# Altium footprint library Tantalum-1206.PcbLib: 1 footprints
Each footprint in its own frame and in the unit in brackets; x right, y up, seen from the top. Pads: shape width x height; smd on the part's side, far side on the other; paste and mask are expansions set on the pad; w line width, h text height; cw(c..) or ccw(c..) is an arc to the next point about the centre after c.
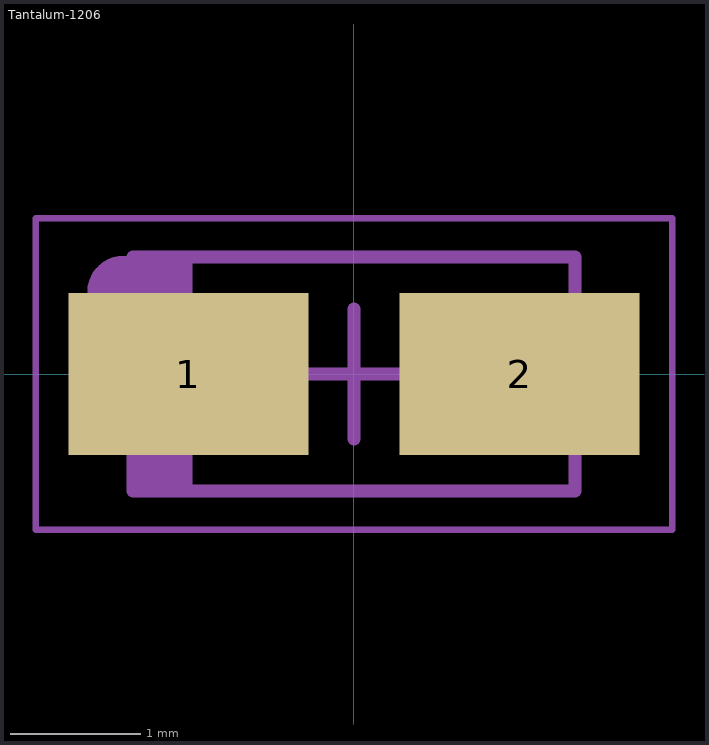
[diagram p0: the footprint, top view; thin cyan lines are the x and y axes]

## Tantalum-1206 [mm] "Tantalum Capacitor, 1206 Package"
height 1.6
pads (2):
  rect 1.85x1.25 smd: 1(-1.275,0) 2(1.275,0)
Mechanical 6:
  text "'.Designator'" at -1.27,-0.254 h0.6
Mechanical 8:
  circle w0.3: c-1.778,0.635 r0.125
  lines w0.05: -2.45,-1.2 2.45,-1.2 2.45,1.2 -2.45,1.2 -2.45,-1.2
Mechanical 13:
  region: -1.243,0.9 -1.7,0.9 -1.7,-0.9 -1.243,-0.9
  lines w0.1: -1.7,-0.9 -1.7,0.9 1.7,0.9 1.7,-0.9 -1.7,-0.9
Mechanical 15:
  lines w0.05: -2.45,-1.2 -2.45,1.2 2.45,1.2 2.45,-1.2 -2.45,-1.2
  lines w0.1: -0.5,0 0.5,0 ; 0,-0.5 0,0.5
3D body "Tantalum-1206.step": height 1.6, standoff 0, extent -1.92,-0.9 1.92,0.9